# EAGLE library part 74HCT151D (library NXP_By_element14_Batch_1)
Multiplexer
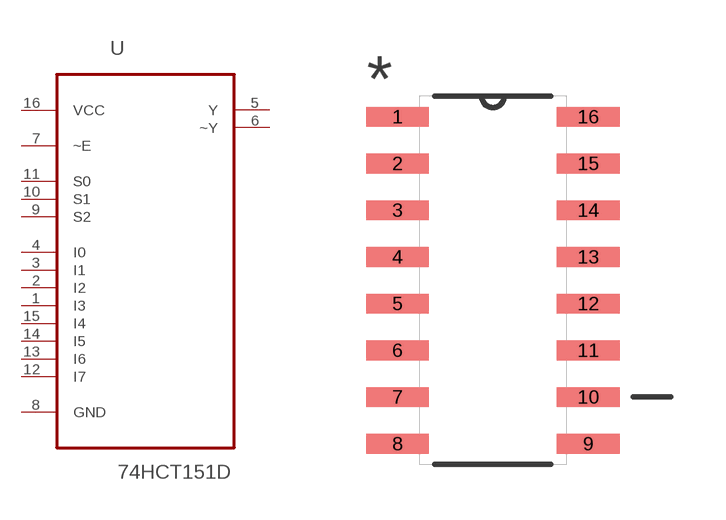
[diagram p178: symbol with the pads of SOIC127P600X175-16N; footprint SOIC127P600X175-16N]

Designator prefix U

## 74HCT151D (MPN: 74HCT151D; OC_FARNELL: 1085309; OC_NEWARK: 99K0550; PACKAGE: SOIC-16; SUPPLIER: NXP)  [SOIC127P600X175-16N]
1  I3  in
2  I2  in
3  I1  in
4  I0  in
5  Y  out
6  ~Y  out
7  ~E  in
8  GND  pas
9  S2  in
10  S1  in
11  S0  in
12  I7  in
13  I6  in
14  I5  in
15  I4  in
16  VCC  pwr

## Footprint SOIC127P600X175-16N (pad centres in mm)
smd 1.702 x 0.533: 1 -2.591,4.445; 2 -2.591,3.175; 3 -2.591,1.905; 4 -2.591,0.635; 5 -2.591,-0.635; 6 -2.591,-1.905; 7 -2.591,-3.175; 8 -2.591,-4.445; 9 2.591,-4.445; 10 2.591,-3.175; 11 2.591,-1.905; 12 2.591,-0.635; 13 2.591,0.635; 14 2.591,1.905; 15 2.591,3.175; 16 2.591,4.445